# Altium footprint library SP43.PcbLib: 1 footprints
Each footprint in its own frame and in the unit in brackets; x right, y up, seen from the top. Pads: shape width x height; smd on the part's side, far side on the other; paste and mask are expansions set on the pad; w line width, h text height; cw(c..) or ccw(c..) is an arc to the next point about the centre after c.
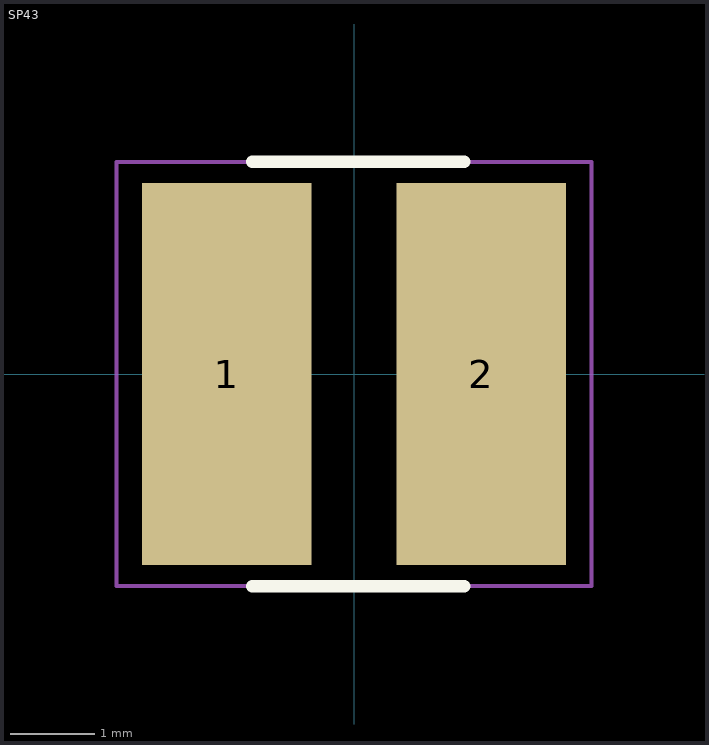
[diagram p0: the footprint, top view; thin cyan lines are the x and y axes]

## SP43 [mm]
pads (2):
  rect 2x4.5 smd: 1(-1.5,0) 2(1.5,0)
Top Overlay:
  lines w0.15: -1.2,-2.5 1.3,-2.5 ; -1.2,2.5 1.3,2.5
Mechanical 15:
  lines w0.05: -2.8,-2.5 -2.8,2.5 2.8,2.5 2.8,-2.5 -2.8,-2.5
3D body "Inductor SP43.STEP": height 3.19, standoff 0, extent -2,-2.217 2,2.217